# Altium schematic symbol library bead_0.Schlib: 1 symbol
Pins are listed as number, name and electrical type; pins without a type are passive.

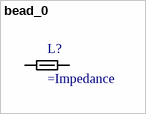
[diagram p0: symbol bead_0]

## bead_0
designator L?
Ferrite Bead
pins: 1, 2